# EAGLE library part TC7660 (library PATSKO)
CMOS charge pump Footprint compatible with (Boost/NC pin configuration): TL7660 - NC TC7660 - NC TC7660H - NC TC7660S - Boost TC1044 - Boost ICL7660 - NC MAX1044 - Boost LT1054 - NC
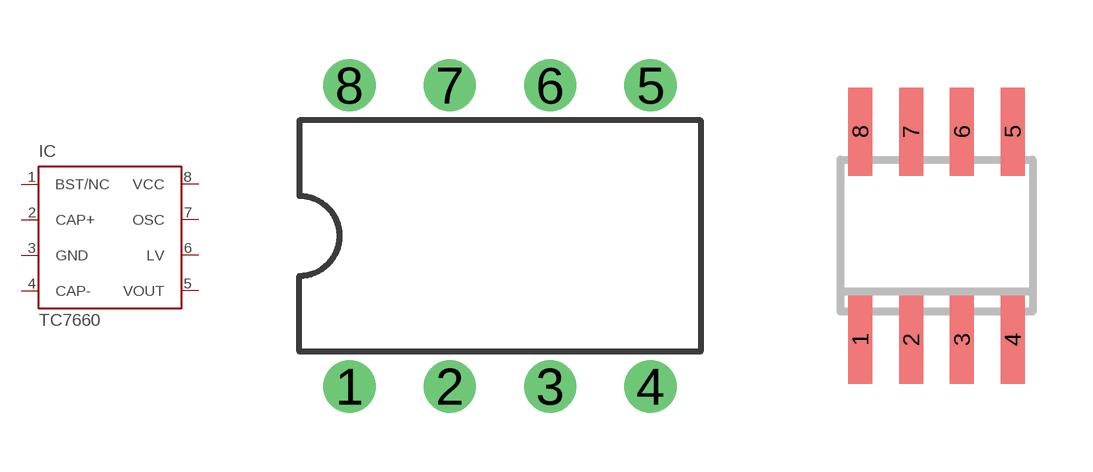
[diagram p0: symbol with the pads of DIL08; footprints DIL08, SOIC08]

Designator prefix IC

## TC7660-DIP (MPN: TL7660CP; OC_FARNELL: 1755283; OC_NEWARK: 14M2447)  [DIL08]
1  BST/NC  pas
2  CAP+  pas
3  GND  pwr
4  CAP-  pas
5  VOUT  pas
6  LV  pas
7  OSC  pas
8  VCC  pwr

## TC7660-SOIC  [SOIC08]
Pads as for DIL08

## Footprint DIL08 (pad centres in mm)
Dual In Line Package
drill 0.813 pad 1.27: 1 -3.81,-3.81; 2 -1.27,-3.81; 3 1.27,-3.81; 4 3.81,-3.81; 5 3.81,3.81; 6 1.27,3.81; 7 -1.27,3.81; 8 -3.81,3.81

## Footprint SOIC08 (pad centres in mm)
Small Outline Package 8 NS Package M08A
smd 0.6 x 2.2: 1 -1.905,-2.6; 2 -0.635,-2.6; 3 0.635,-2.6; 4 1.905,-2.6; 5 1.905,2.6; 6 0.635,2.6; 7 -0.635,2.6; 8 -1.905,2.6